# Altium schematic symbol library OPA310IDCKR.SchLib: 1 symbol
Pins are listed as number, name and electrical type; pins without a type are passive.

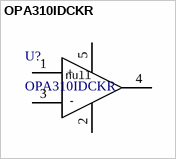
[diagram p0: symbol OPA310IDCKR]

## OPA310IDCKR
designator U?
Single, 5.5-V, 3-MHz high-output-current (150 mA) fast-shutdown (1 Î¼s) operational amplifier 5-SC70 -40 to 125; Manufacturer_Name: Texas Instruments; TYPE: TYPE; RefDes: RefDes; Copyright: Copyright (C) 2025 Ultra Librarian. All rights reserved.; Manufacturer_Part_Number: OPA310IDCKR
footprint DCK0005A-IPC_A
pins: 1 IN+ (hiz), 2 V- (power), 3 IN- (hiz), 4 OUT, 5 V+ (power)
text: null; +; -